# Altium footprint library my_pcb.PcbLib: 2 footprints
Each footprint in its own frame and in the unit in brackets; x right, y up, seen from the top. Pads: shape width x height; smd on the part's side, far side on the other; paste and mask are expansions set on the pad; w line width, h text height; cw(c..) or ccw(c..) is an arc to the next point about the centre after c.
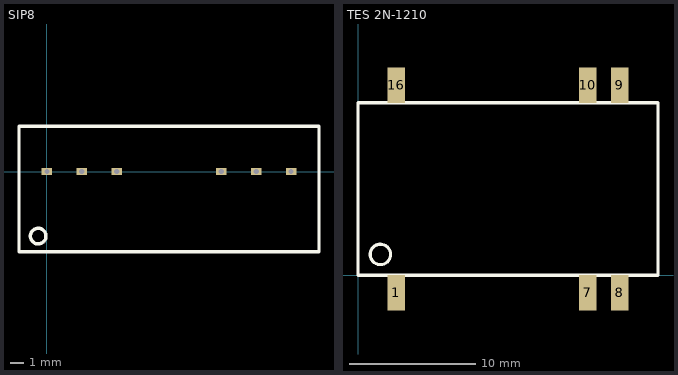
[diagram p0: the footprints below, top view; thin cyan lines are the x and y axes]

## SIP8 [mil]
pads (6):
  rect 30x20 hole 15 square: 1(0,0) 2(100,0) 3(200,0) 6(500,0) 7(600,0) 8(700,0)
Top Overlay:
  circle w10: c-25,-185 r22.36
  lines w10: -80,-200 -80,-195 ; -80,-230 780,-230 780,130 -80,130 -80,-230

## TES 2N-1210 [mil]
pads (6):
  rect 55x110 smd: 1(120,-55) 7(720,-55) 8(820,-55) 9(820,595) 10(720,595) 16(120,595)
Top Overlay:
  circle w10: c70,65 r32.02
  lines w10: 0,0 0,540 940,540 940,0 0,0